# EAGLE library part RF3501E (library X893)
http://www.rfm.com/products/data/rf3501e.pdf
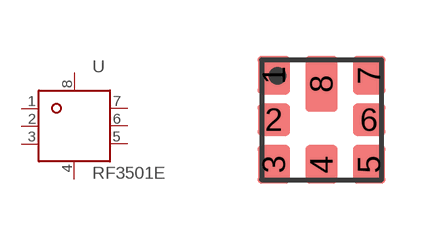
[diagram p152: symbol with the pads of RF3501E; footprint RF3501E]

Designator prefix U

## RF3501E  [RF3501E]
1  P$1  pas
2  P$2  pas
3  P$3  pas
4  GND  pwr
5  P$4  pas
6  P$5  pas
7  P$6  pas
8  GND  pwr

## Footprint RF3501E (pad centres in mm)
smd 0.81 x 0.96: 1 -1.19,1.115; 3 -1.19,-1.115; 4 0,-1.115; 5 1.19,-1.115; 7 1.19,1.115
smd 0.81 x 0.81: 2 -1.19,0; 6 1.19,0
smd 0.81 x 1.39: 8 0,0.9